# EAGLE library part TC1508S (library misc)
Dual H-bridge Datasheet <https://datasheet.lcsc.com/szlcsc/2008120132_Shenzhen-Fuman-Elec-TC1508S_C89480.pdf>
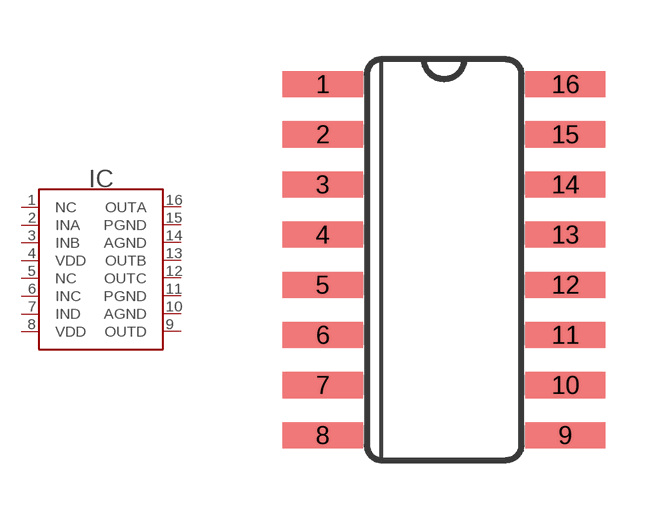
[diagram p66: symbol with the pads of SOIC16; footprint SOIC16]

Designator prefix IC

## TC1508S (LCSC#: C89480; MANF: Shenzhen Fuman Elec; MANF#: TC1508S)  [SOIC16]
1  NC
2  INA
3  INB
4  VDD
5  NC
6  INC
7  IND
8  VDD
9  OUTD
10  AGND
11  PGND
12  OUTC
13  OUTB
14  AGND
15  PGND
16  OUTA

## Footprint SOIC16 (pad centres in mm)
3D model <http://grabcad.com/library/106x-soic-packages-small-outline-integrated-circuit-1/details?folder_id=13776991>
smd 2.032 x 0.66: 1 -3.073,4.445; 2 -3.073,3.175; 3 -3.073,1.905; 4 -3.073,0.635; 5 -3.073,-0.635; 6 -3.073,-1.905; 7 -3.073,-3.175; 8 -3.073,-4.445; 9 3.073,-4.445; 10 3.073,-3.175; 11 3.073,-1.905; 12 3.073,-0.635; 13 3.073,0.635; 14 3.073,1.905; 15 3.073,3.175; 16 3.073,4.445